# Altium schematic symbol library _MF-TEMPLATE.SchLib: 1 symbol
Pins are listed as number, name and electrical type; pins without a type are passive.

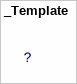
[diagram p0: symbol _Template]

## _Template
designator ?  (value not drawn)
Type: *; Operating Temperature Range: *; Value: *; Dielectric: *; RoHS: *; Voltage Rating: *; Tolerance: *; Package: *; ComponentLink1Description: Datasheet; ComponentLink1URL: *; ComponentLink2Description: Supplier Link 1; ComponentLink2URL: *; Supplier 1: Macrofab; Supplier Part Number 1: *; Manufacturer 1: *; Manufacturer Part Number 1: *